# Altium schematic symbol library VSSAF5M10-M3_H.SchLib: 1 symbol
Pins are listed as number, name and electrical type; pins without a type are passive.

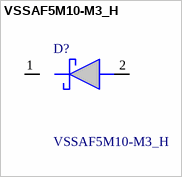
[diagram p0: symbol VSSAF5M10-M3_H]

## VSSAF5M10-M3_H
designator D?
Schottky Diodes & Rectifiers TMBS 100V Vrrm eSMP SlimSMA (DO-221AC); Manufacturer_Name: Vishay; Manufacturer_Part_Number: VSSAF5M10-M3/H; Geometry.Height: 1mm; Mouser Part Number: 78-VSSAF5M10-M3/H; Mouser Price/Stock: https://www.mouser.co.uk/ProductDetail/Vishay-General-Semiconductor/VSSAF5M10-M3-H?qs=ECv811tYSNgAKxXn4qJoLg%3D%3D; Arrow Part Number: VSSAF5M10-M3/H; Arrow Price/Stock: https://www.arrow.com/en/products/vssaf5m10-m3h/vishay?region=nac; Datasheet Link: https://www.mouser.co.uk/datasheet/2/427/VISH_S_A0006177028_1-2569585.pdf
footprint SODFL5226X100N
pins: 1 K, 2 A